# Altium footprint library XR_XR46-4R7M-L.PcbLib: 1 footprints
Each footprint in its own frame and in the unit in brackets; x right, y up, seen from the top. Pads: shape width x height; smd on the part's side, far side on the other; paste and mask are expansions set on the pad; w line width, h text height; cw(c..) or ccw(c..) is an arc to the next point about the centre after c.
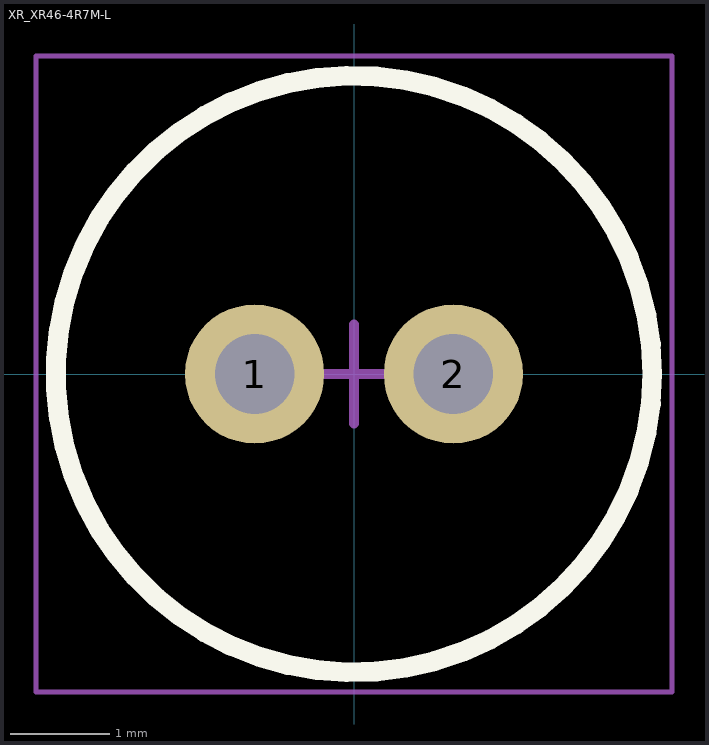
[diagram p0: the footprint, top view; thin cyan lines are the x and y axes]

## XR_XR46-4R7M-L [mm] "XR_XR46-4R7M-L"
height 8.5
pads (2):
  round 1.4 hole 0.8 mask+0.05: 1(-1,0) 2(1,0)
Top Overlay:
  circle w0.2: c0,0 r3
Mechanical 13:
  circle w0.1: c0,0 r3
Mechanical 15:
  lines w0.05: -3.2,-3.2 -3.2,3.2 3.2,3.2 3.2,-3.2 -3.2,-3.2
  lines w0.1: -0.5,0 0.5,0 ; 0,-0.5 0,0.5